# Altium footprint library ch91432.PcbLib: 10 footprints
Each footprint in its own frame and in the unit in brackets; x right, y up, seen from the top. Pads: shape width x height; smd on the part's side, far side on the other; paste and mask are expansions set on the pad; w line width, h text height; cw(c..) or ccw(c..) is an arc to the next point about the centre after c.
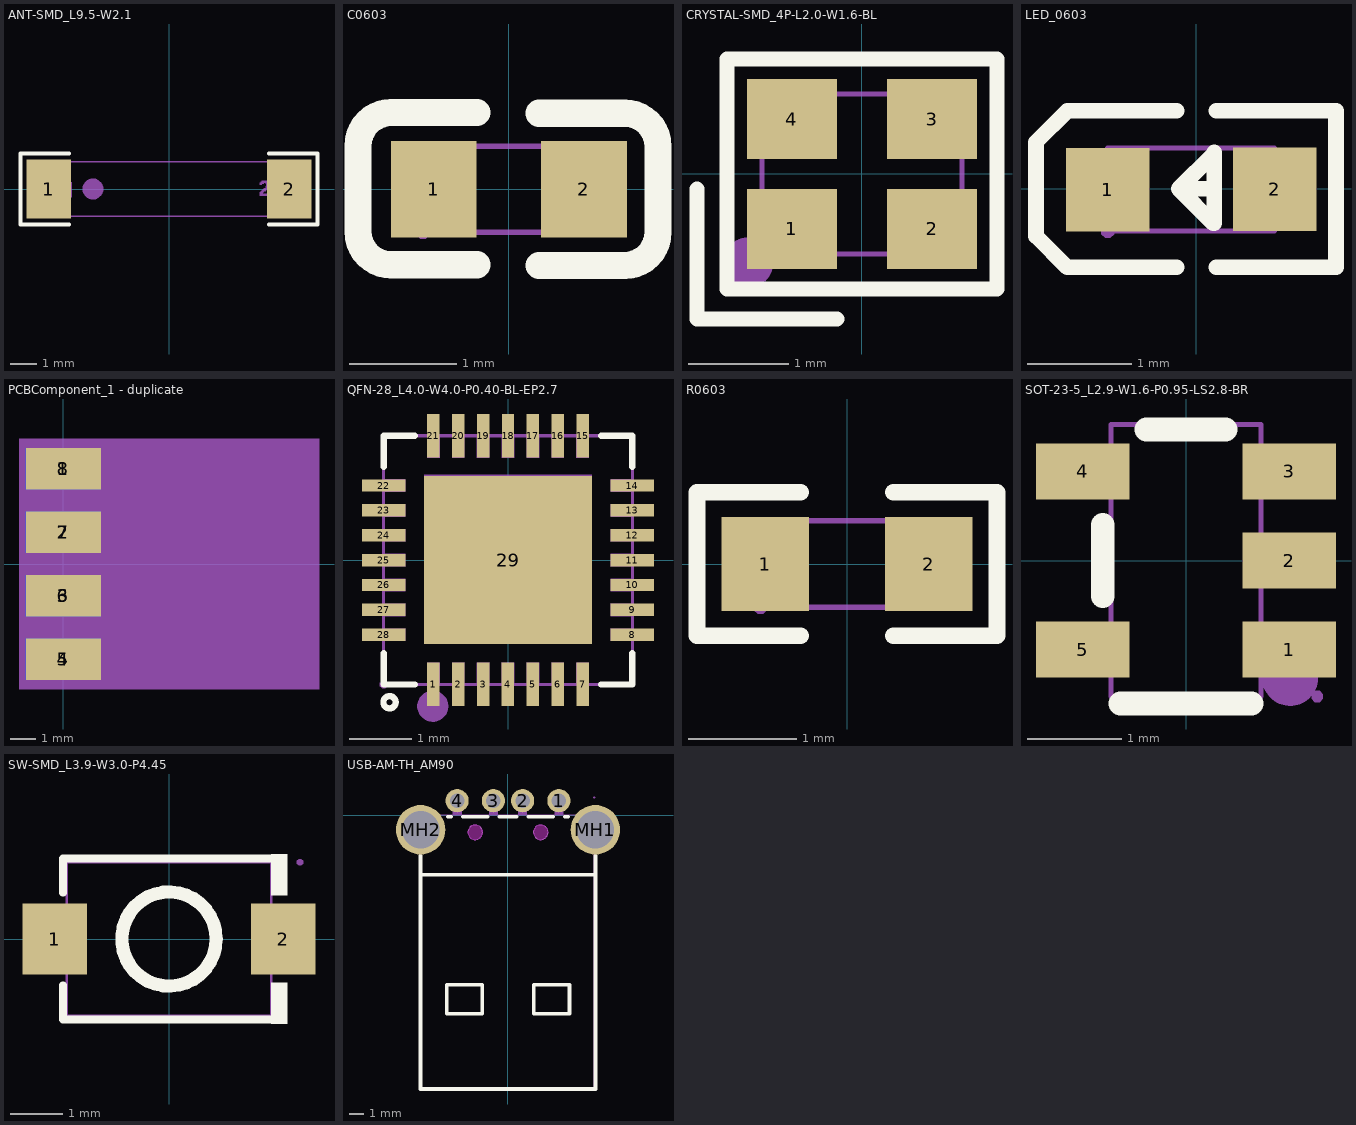
[diagram p0: the footprints below, top view; thin cyan lines are the x and y axes]

## ANT-SMD_L9.5-W2.1 [mm]
pads (2):
  rect 1.71x2.268 smd paste-100 mask+0.051: 1(-4.63,0) 2(4.63,0)
Top Overlay:
  lines w0.152: -3.851,-1.363 -5.714,-1.363 -5.714,1.363 -3.851,1.363 ; 3.851,-1.363 5.714,-1.363 5.714,1.363 3.851,1.363
Top Paste:
  region: -3.775,-1.034 -3.775,-0.486 -3.875,-0.386 -4.256,-0.386 -4.356,-0.286 -4.356,0.286 -4.256,0.386 -3.875,0.386 -3.775,0.486 -3.775,1.034 -3.875,1.134 -5.385,1.134 -5.485,1.034 -5.485,-1.034 -5.385,-1.134 -3.875,-1.134
  region: 3.775,-1.034 3.775,-0.486 3.875,-0.386 4.256,-0.386 4.356,-0.286 4.356,0.286 4.256,0.386 3.875,0.386 3.775,0.486 3.775,1.034 3.875,1.134 5.385,1.134 5.485,1.034 5.485,-1.034 5.385,-1.134 3.875,-1.134
Mechanical 6:
  drawing of 34 lines, arcs and shapes, not listed
Mechanical 7:
  lines w0.051: -4.75,-1.05 4.75,-1.05 4.75,1.05 -4.75,1.05 -4.75,-1.05
Mechanical 8:
  region: -4.75,-0.99 -4.725,-0.99 -4.69,-1.025 -4.69,-1.075 -4.725,-1.11 -4.75,-1.11 -4.775,-1.11 -4.81,-1.075 -4.81,-1.025 -4.775,-0.99 -4.75,-0.99
Mechanical 9:
  region: -4.75,-1.05 -4.75,1.05 -4.1,1.05 -4.1,-1.05
  region: 4.75,-1.05 4.75,1.05 4.1,1.05 4.1,-1.05

## C0603 [mm]
pads (2):
  rect 0.8x0.9 smd paste+0.051: 1(-0.7,0) 2(0.7,0)
Top Overlay:
  lines w0.254: -0.296,-0.704 -1.096,-0.704 cw(c-1.096,-0.394) -1.406,-0.394 -1.405,0.406 cw(c-1.096,0.406) -1.096,0.715 -0.296,0.715 ; 0.28,-0.71 1.08,-0.71 ccw(c1.08,-0.4) 1.39,-0.4 1.39,0.4 ccw(c1.08,0.4) 1.08,0.71 0.28,0.71
Mechanical 7:
  lines w0.051: -0.8,-0.4 0.8,-0.4 0.8,0.4 -0.8,0.4 -0.8,-0.4
Mechanical 8:
  region: -0.8,-0.46 -0.825,-0.46 -0.86,-0.425 -0.86,-0.375 -0.825,-0.34 -0.8,-0.34 -0.775,-0.34 -0.74,-0.375 -0.74,-0.425 -0.775,-0.46 -0.8,-0.46
Mechanical 9:
  region: 0.8,-0.4 0.8,0.4 0.5,0.4 0.5,-0.4
  region: -0.8,-0.4 -0.8,0.4 -0.5,0.4 -0.5,-0.4

## CRYSTAL-SMD_4P-L2.0-W1.6-BL [mm]
pads (4):
  rect 0.9x0.8 smd paste+0.051: 1(-0.7,-0.55) 2(0.7,-0.55) 3(0.7,0.55) 4(-0.7,0.55)
Top Overlay:
  lines w0.152: -1.65,-0.15 -1.65,-1.45 -0.25,-1.45 ; -1.35,-1.15 1.35,-1.15 1.35,1.15 -1.35,1.15 -1.35,-1.15
Mechanical 6:
  circle w0.254: c-1.143,-0.889 r0.127
Mechanical 7:
  lines w0.051: -1,-0.8 -1,0.8 1,0.8 1,-0.8 -1,-0.8
Mechanical 8:
  region: -1.06,-0.8 -1.06,-0.775 -1.025,-0.74 -0.975,-0.74 -0.94,-0.775 -0.94,-0.8 -0.94,-0.825 -0.975,-0.86 -1.025,-0.86 -1.06,-0.825 -1.06,-0.8
Mechanical 9:
  region: -0.95,0.275 -0.95,0.75 -0.375,0.75 -0.375,0.275
  region: -0.95,-0.75 -0.95,-0.275 -0.375,-0.275 -0.375,-0.75
  region: 0.95,-0.275 0.95,-0.75 0.375,-0.75 0.375,-0.275
  region: 0.95,0.75 0.95,0.275 0.375,0.275 0.375,0.75

## LED_0603 [mil]
pads (2):
  rect 31.5x31.5 smd paste+0 mask+2: 1(-33.5,-0.4) 2(29.5,-0.2)
Top Overlay:
  lines w5.9: -7.5,-29.7 -48.8,-29.7 -60.6,-17.9 -60.6,-13.9 -60.6,13.6 -60.6,17.6 -48.8,29.4 -7.5,29.4 ; 6.7,0 -6.7,0 ; 7.5,-29.6 52.7,-29.6 ; 7.5,29.5 52.7,29.5 52.7,-28.8 ; -6.7,0 6.3,-13 6.7,-13 6.7,13.7 6.7,13.3 -6.7,0
Mechanical 6:
  region: 18.8,2.4 40.1,2.4 40.1,-2.7 18.8,-2.7
  region: 26.9,-10.8 26.9,10.4 32,10.4 32,-10.8
  region: -44.1,2.1 -22.9,2.1 -22.9,-3 -44.1,-3
Mechanical 7:
  lines w2: -33.5,-16 -33.5,15.4 29.5,15.4 29.5,-16 -33.5,-16
Mechanical 8:
  region: -33.5,-13.8 -32.51,-13.8 -31.1,-15.21 -31.1,-17.19 -32.51,-18.6 -33.5,-18.6 -34.49,-18.6 -35.9,-17.19 -35.9,-15.21 -34.49,-13.8 -33.5,-13.8
Mechanical 9:
  region: 17.7,-15.9 17.7,15.6 29.5,15.6 29.5,-15.9
  region: -33.5,-16.2 -33.5,15.3 -21.7,15.3 -21.7,-16.2

## PCBComponent_1 - duplicate [mm]
pads (8):
  rect 3x1.65 smd paste+0.051: 1(0,3.81) 2(0,1.27) 3(0,-1.27) 4(0,-3.81)
  rect 3x1.65 smd far side paste+0.051: 5(0,-3.81) 6(0,-1.27) 7(0,1.27) 8(0,3.81)
Mechanical 7:
  region: -1.778,5 10.222,5 10.222,-5 -1.778,-5

## QFN-28_L4.0-W4.0-P0.40-BL-EP2.7 [mm]
pads (29):
  rect 0.2x0.7 smd paste-100 mask+0.051: 1(-1.2,-2) 2(-0.8,-2) 3(-0.4,-2) 4(-0.001,-2) 5(0.4,-2) 6(0.8,-2) 7(1.2,-2) 15(1.2,2) 16(0.8,2) 17(0.4,2) 18(0,2) 19(-0.4,2) 20(-0.8,2) 21(-1.2,2)
  rect 0.7x0.2 smd paste-100 mask+0.051: 8(2,-1.2) 9(2,-0.8) 10(2,-0.4) 11(1.999,0) 12(2,0.4) 13(2,0.8) 14(2,1.2) 22(-2,1.2) 23(-2,0.8) 24(-2,0.4) 25(-2,0) 26(-2,-0.4) 27(-2,-0.8) 28(-2,-1.2)
  rect 2.7x2.7 smd paste-100 mask+0.051: 29(0,0)
Top Overlay:
  circle w0.1: c-1.905,-2.286 r0.099
  lines w0.102: -2,-1.5 -2,-2 -1.5,-2 ; -2,1.5 -2,2 -1.5,2 ; 1.5,-2 2,-2 2,-1.5 ; 1.5,2 2,2 2,1.5
Top Paste:
  region: 1.3,1.65 1.3,2.35 1.1,2.35 1.1,1.65
  region: 0.7,2.35 0.7,1.65 0.9,1.65 0.9,2.35
  region: -1.1,1.65 -1.1,2.35 -1.3,2.35 -1.3,1.65
  region: -0.7,1.65 -0.7,2.35 -0.9,2.35 -0.9,1.65
  region: -0.3,1.65 -0.3,2.35 -0.5,2.35 -0.5,1.65
  region: 0.3,2.35 0.3,1.65 0.5,1.65 0.5,2.35
  region: 0.1,1.65 0.1,2.35 -0.1,2.35 -0.1,1.65
  region: 1.08,-1.08 1.08,1.08 -1.08,1.08 -1.08,-1.08
  region: -2.35,1.3 -2.35,1.1 -1.65,1.1 -1.65,1.3
  region: 2.35,1.1 2.35,1.3 1.65,1.3 1.65,1.1
  region: -2.35,0.9 -2.35,0.7 -1.65,0.7 -1.65,0.9
  region: 2.35,0.7 2.35,0.9 1.65,0.9 1.65,0.7
  region: -2.35,0.5 -2.35,0.3 -1.65,0.3 -1.65,0.5
  region: 2.35,0.3 2.35,0.5 1.65,0.5 1.65,0.3
  region: -2.35,0.1 -2.35,-0.1 -1.65,-0.1 -1.65,0.1
  region: 2.349,-0.1 2.349,0.1 1.649,0.1 1.649,-0.1
  region: -2.35,-0.3 -2.35,-0.5 -1.65,-0.5 -1.65,-0.3
  region: 2.35,-0.5 2.35,-0.3 1.65,-0.3 1.65,-0.5
  region: -2.35,-0.7 -2.35,-0.9 -1.65,-0.9 -1.65,-0.7
  region: 2.35,-0.9 2.35,-0.7 1.65,-0.7 1.65,-0.9
  region: -2.35,-1.1 -2.35,-1.3 -1.65,-1.3 -1.65,-1.1
  region: 1.65,-1.1 1.65,-1.3 2.35,-1.3 2.35,-1.1
  region: -1.1,-2.35 -1.1,-1.65 -1.3,-1.65 -1.3,-2.35
  region: -0.101,-1.65 -0.101,-2.35 0.099,-2.35 0.099,-1.65
  region: -0.7,-2.35 -0.7,-1.65 -0.9,-1.65 -0.9,-2.35
  region: -0.3,-2.35 -0.3,-1.65 -0.5,-1.65 -0.5,-2.35
  region: 1.3,-2.35 1.3,-1.65 1.1,-1.65 1.1,-2.35
  region: 0.3,-1.65 0.3,-2.35 0.5,-2.35 0.5,-1.65
  region: 0.9,-2.35 0.9,-1.65 0.7,-1.65 0.7,-2.35
Mechanical 6:
  circle w0.25: c-1.21,-2.35 r0.125
Mechanical 7:
  lines w0.051: -2,-2 -2,2 2,2 2,-2 -2,-2
Mechanical 8:
  region: -1.958,-2.042 -1.975,-2.06 -2.025,-2.06 -2.06,-2.025 -2.06,-1.975 -2.042,-1.958 -2.025,-1.94 -1.975,-1.94 -1.94,-1.975 -1.94,-2.025 -1.958,-2.042
Mechanical 9:
  region: -2,-1.3 -2,-1.1 -1.65,-1.1 -1.65,-1.3
  region: -2,-0.9 -2,-0.7 -1.65,-0.7 -1.65,-0.9
  region: -2,-0.5 -2,-0.3 -1.65,-0.3 -1.65,-0.5
  region: -2,-0.1 -2,0.1 -1.65,0.1 -1.65,-0.1
  region: -2,0.3 -2,0.5 -1.65,0.5 -1.65,0.3
  region: -2,0.7 -2,0.9 -1.65,0.9 -1.65,0.7
  region: -2,1.1 -2,1.3 -1.65,1.3 -1.65,1.1
  region: -1.3,1.65 -1.3,2 -1.1,2 -1.1,1.65
  region: -0.9,1.65 -0.9,2 -0.7,2 -0.7,1.65
  region: -0.5,1.65 -0.5,2 -0.3,2 -0.3,1.65
  region: -0.1,1.65 -0.1,2 0.1,2 0.1,1.65
  region: 0.3,1.65 0.3,2 0.5,2 0.5,1.65
  region: 0.7,1.65 0.7,2 0.9,2 0.9,1.65
  region: 1.1,1.65 1.1,2 1.3,2 1.3,1.65
  region: 1.65,1.1 1.65,1.3 2,1.3 2,1.1
  region: 1.65,0.7 1.65,0.9 2,0.9 2,0.7
  region: 1.65,0.3 1.65,0.5 2,0.5 2,0.3
  region: 1.65,-0.1 1.65,0.1 2,0.1 2,-0.1
  region: 1.65,-0.5 1.65,-0.3 2,-0.3 2,-0.5
  region: 1.65,-0.9 1.65,-0.7 2,-0.7 2,-0.9
  region: 1.65,-1.3 1.65,-1.1 2,-1.1 2,-1.3
  region: -1.3,-2 -1.3,-1.65 -1.1,-1.65 -1.1,-2
  region: -0.9,-2 -0.9,-1.65 -0.7,-1.65 -0.7,-2
  region: -0.5,-2 -0.5,-1.65 -0.3,-1.65 -0.3,-2
  region: 1.1,-2 1.1,-1.65 1.3,-1.65 1.3,-2
  region: 0.7,-2 0.7,-1.65 0.9,-1.65 0.9,-2
  region: 0.3,-2 0.3,-1.65 0.5,-1.65 0.5,-2
  region: -0.101,-2 -0.101,-1.65 0.099,-1.65 0.099,-2
  region: -1.35,1.37 1.35,1.37 1.35,-1.33 -1.35,-1.33

## R0603 [mm]
pads (2):
  rect 0.806x0.864 smd paste-100 mask+0.051: 1(-0.753,0) 2(0.753,0)
Top Overlay:
  lines w0.152: -0.426,-0.661 -1.385,-0.661 -1.385,0.661 -0.426,0.661 ; 0.426,-0.661 1.385,-0.661 1.385,0.661 0.426,0.661
Top Paste:
  region: -0.355,0.4 -0.355,0.172 -0.735,0.172 -0.735,-0.158 -0.355,-0.158 -0.355,-0.4 -0.405,-0.45 -1.195,-0.45 -1.245,-0.4 -1.245,0.4 -1.195,0.45 -0.405,0.45
  region: 1.195,0.45 0.395,0.45 0.345,0.4 0.345,0.172 0.715,0.172 0.715,-0.158 0.345,-0.158 0.345,-0.4 0.395,-0.45 1.195,-0.45 1.245,-0.4 1.245,0.4
Mechanical 7:
  lines w0.051: -0.8,-0.4 0.8,-0.4 0.8,0.4 -0.8,0.4 -0.8,-0.4
Mechanical 8:
  region: -0.8,-0.46 -0.825,-0.46 -0.86,-0.425 -0.86,-0.375 -0.825,-0.34 -0.8,-0.34 -0.775,-0.34 -0.74,-0.375 -0.74,-0.425 -0.775,-0.46 -0.8,-0.46
Mechanical 9:
  region: 0.8,-0.4 0.8,0.4 0.5,0.4 0.5,-0.4
  region: -0.8,-0.4 -0.8,0.4 -0.5,0.4 -0.5,-0.4

## SOT-23-5_L2.9-W1.6-P0.95-LS2.8-BR [mm]
pads (5):
  rect 1x0.6 smd paste+0 mask+0.05: 1(1.1,-0.95) 2(1.1,0) 3(1.1,0.95) 4(-1.1,0.95) 5(-1.1,-0.95)
Top Overlay:
  lines w0.254: -0.889,-0.381 -0.889,0.381 ; -0.699,-1.524 0.698,-1.524 ; -0.422,1.397 0.422,1.397
Mechanical 6:
  circle w0.3: c1.11,-1.25 r0.15
Mechanical 7:
  lines w0.051: -0.8,-1.45 0.8,-1.45 0.8,1.45 -0.8,1.45 -0.8,-1.45
Mechanical 8:
  region: 1.4,-1.39 1.425,-1.39 1.46,-1.425 1.46,-1.475 1.425,-1.51 1.4,-1.51 1.375,-1.51 1.34,-1.475 1.34,-1.425 1.375,-1.39 1.4,-1.39
Mechanical 9:
  region: -0.95,-1.15 -1.4,-1.15 -1.4,-0.75 -0.95,-0.75
  region: -0.95,0.75 -1.4,0.75 -1.4,1.15 -0.95,1.15
  region: 1.4,-1.15 0.95,-1.15 0.95,-0.75 1.4,-0.75
  region: 1.4,0.75 0.95,0.75 0.95,1.15 1.4,1.15
  region: 1.4,-0.2 0.95,-0.2 0.95,0.2 1.4,0.2
Mechanical 10:
  region: -0.79,-1.15 -0.96,-1.15 -0.96,-0.75 -0.79,-0.75
  region: -0.79,0.75 -0.96,0.75 -0.96,1.15 -0.79,1.15
  region: 0.96,-1.15 0.79,-1.15 0.79,-0.75 0.96,-0.75
  region: 0.96,0.75 0.79,0.75 0.79,1.15 0.96,1.15
  region: 0.96,-0.2 0.79,-0.2 0.79,0.2 0.96,0.2

## SW-SMD_L3.9-W3.0-P4.45 [mm]
pads (2):
  rect 1.23x1.36 smd paste+0.051: 1(-2.185,0) 2(2.185,0)
Top Overlay:
  circle w0.254: c0,0 r0.9
  region: 1.95,-1.617 1.95,-0.832 2.255,-0.832 2.255,-1.617
  region: 1.95,1.617 1.95,0.832 2.255,0.832 2.255,1.617
  lines w0.152: -2.026,-0.883 -2.026,-1.541 2.026,-1.541 ; -2.026,0.883 -2.026,1.541 2.026,1.541
Mechanical 7:
  lines w0.051: -1.95,-1.465 1.95,-1.465 1.95,1.465 -1.95,1.465 -1.95,-1.465
Mechanical 8:
  region: 2.5,1.405 2.475,1.405 2.44,1.44 2.44,1.49 2.475,1.525 2.5,1.525 2.525,1.525 2.56,1.49 2.56,1.44 2.525,1.405 2.5,1.405
Mechanical 9:
  region: 2.5,0.65 2.5,-0.65 1.6,-0.65 1.6,0.65
  region: -2.5,0.65 -2.5,-0.65 -1.6,-0.65 -1.6,0.65

## USB-AM-TH_AM90 [mm]
pads (6):
  round 1.6 hole 1 paste+0.051: 1(3.5,1) 2(1,1) 3(-1,1) 4(-3.5,1)
  round 3.4 hole 2.6 paste+0.051: MH1(6,-1) MH2(-6,-1)
Top Overlay:
  lines w0.254: -6.007,-4.098 6.006,-4.098 ; -6.007,-2.792 -6.007,-18.812 6.006,-18.812 6.006,-2.798 ; -4.117,-0.098 -3.899,-0.098 ; -3.102,-0.098 -1.398,-0.098 ; -0.602,-0.098 0.601,-0.098 ; 1.398,-0.098 3.102,-0.098 ; 3.898,-0.098 4.116,-0.098 ; -4.216,-13.649 -1.769,-13.649 -1.769,-11.649 -4.216,-11.649 -4.216,-13.649 ; 1.768,-13.649 4.23,-13.649 4.23,-11.649 1.768,-11.649 1.768,-13.649
Keep-Out Layer:
  circle w0.003: c2.25,-1.175 r0.5
  circle w0.003: c-2.25,-1.175 r0.5
  region: 2.75,-1.175 2.75,-1.274 2.674,-1.458 2.533,-1.599 2.349,-1.675 2.15,-1.675 1.967,-1.599 1.826,-1.458 1.75,-1.274 1.75,-1.175 1.75,-1.076 1.826,-0.892 1.967,-0.751 2.15,-0.675 2.349,-0.675 2.533,-0.751 2.674,-0.892 2.75,-1.076 2.75,-1.175
  region: 2.75,-1.175 2.75,-1.274 2.674,-1.458 2.533,-1.599 2.349,-1.675 2.15,-1.675 1.967,-1.599 1.826,-1.458 1.75,-1.274 1.75,-1.175 1.75,-1.076 1.826,-0.892 1.967,-0.751 2.15,-0.675 2.349,-0.675 2.533,-0.751 2.674,-0.892 2.75,-1.076 2.75,-1.175
  region: -1.75,-1.175 -1.75,-1.274 -1.826,-1.458 -1.967,-1.599 -2.151,-1.675 -2.35,-1.675 -2.533,-1.599 -2.674,-1.458 -2.75,-1.274 -2.75,-1.175 -2.75,-1.076 -2.674,-0.892 -2.533,-0.751 -2.35,-0.675 -2.151,-0.675 -1.967,-0.751 -1.826,-0.892 -1.75,-1.076 -1.75,-1.175
  region: -1.75,-1.175 -1.75,-1.274 -1.826,-1.458 -1.967,-1.599 -2.151,-1.675 -2.35,-1.675 -2.533,-1.599 -2.674,-1.458 -2.75,-1.274 -2.75,-1.175 -2.75,-1.076 -2.674,-0.892 -2.533,-0.751 -2.35,-0.675 -2.151,-0.675 -1.967,-0.751 -1.826,-0.892 -1.75,-1.076 -1.75,-1.175
Mechanical 1:
  circle w0.003: c2.25,-1.175 r0.5
  circle w0.003: c-2.25,-1.175 r0.5
Mechanical 7:
  lines w0.051: -6.068,-18.779 -6.068,0.021 5.932,0.021 5.932,-18.779 -6.068,-18.779
Mechanical 8:
  region: 5.992,1.22 5.992,1.195 5.957,1.16 5.907,1.16 5.872,1.195 5.872,1.22 5.872,1.245 5.907,1.28 5.957,1.28 5.992,1.245 5.992,1.22
Mechanical 9:
  region: -6.068,-2.025 -6.068,0.025 -5.868,0.025 -5.868,-2.025
  region: 5.732,-2.025 5.732,0.025 5.932,0.025 5.932,-2.025
  region: -3.8,0.95 -3.8,1.05 -3.2,1.05 -3.2,0.95
  region: -1.3,0.95 -1.3,1.05 -0.7,1.05 -0.7,0.95
  region: 0.7,0.95 0.7,1.05 1.3,1.05 1.3,0.95
  region: 3.2,0.95 3.2,1.05 3.8,1.05 3.8,0.95
Mechanical 10:
  region: -3.805,0.017 -3.805,1.217 -3.195,1.217 -3.195,0.017
  region: -1.305,0.02 -1.305,1.22 -0.695,1.22 -0.695,0.02
  region: 0.696,0.018 0.696,1.218 1.306,1.218 1.306,0.018
  region: 3.195,0.019 3.195,1.219 3.805,1.219 3.805,0.019